# Altium schematic symbol library Battery_PSU.SchLib: 54 symbols
Pins are listed as number, name and electrical type; pins without a type are passive.

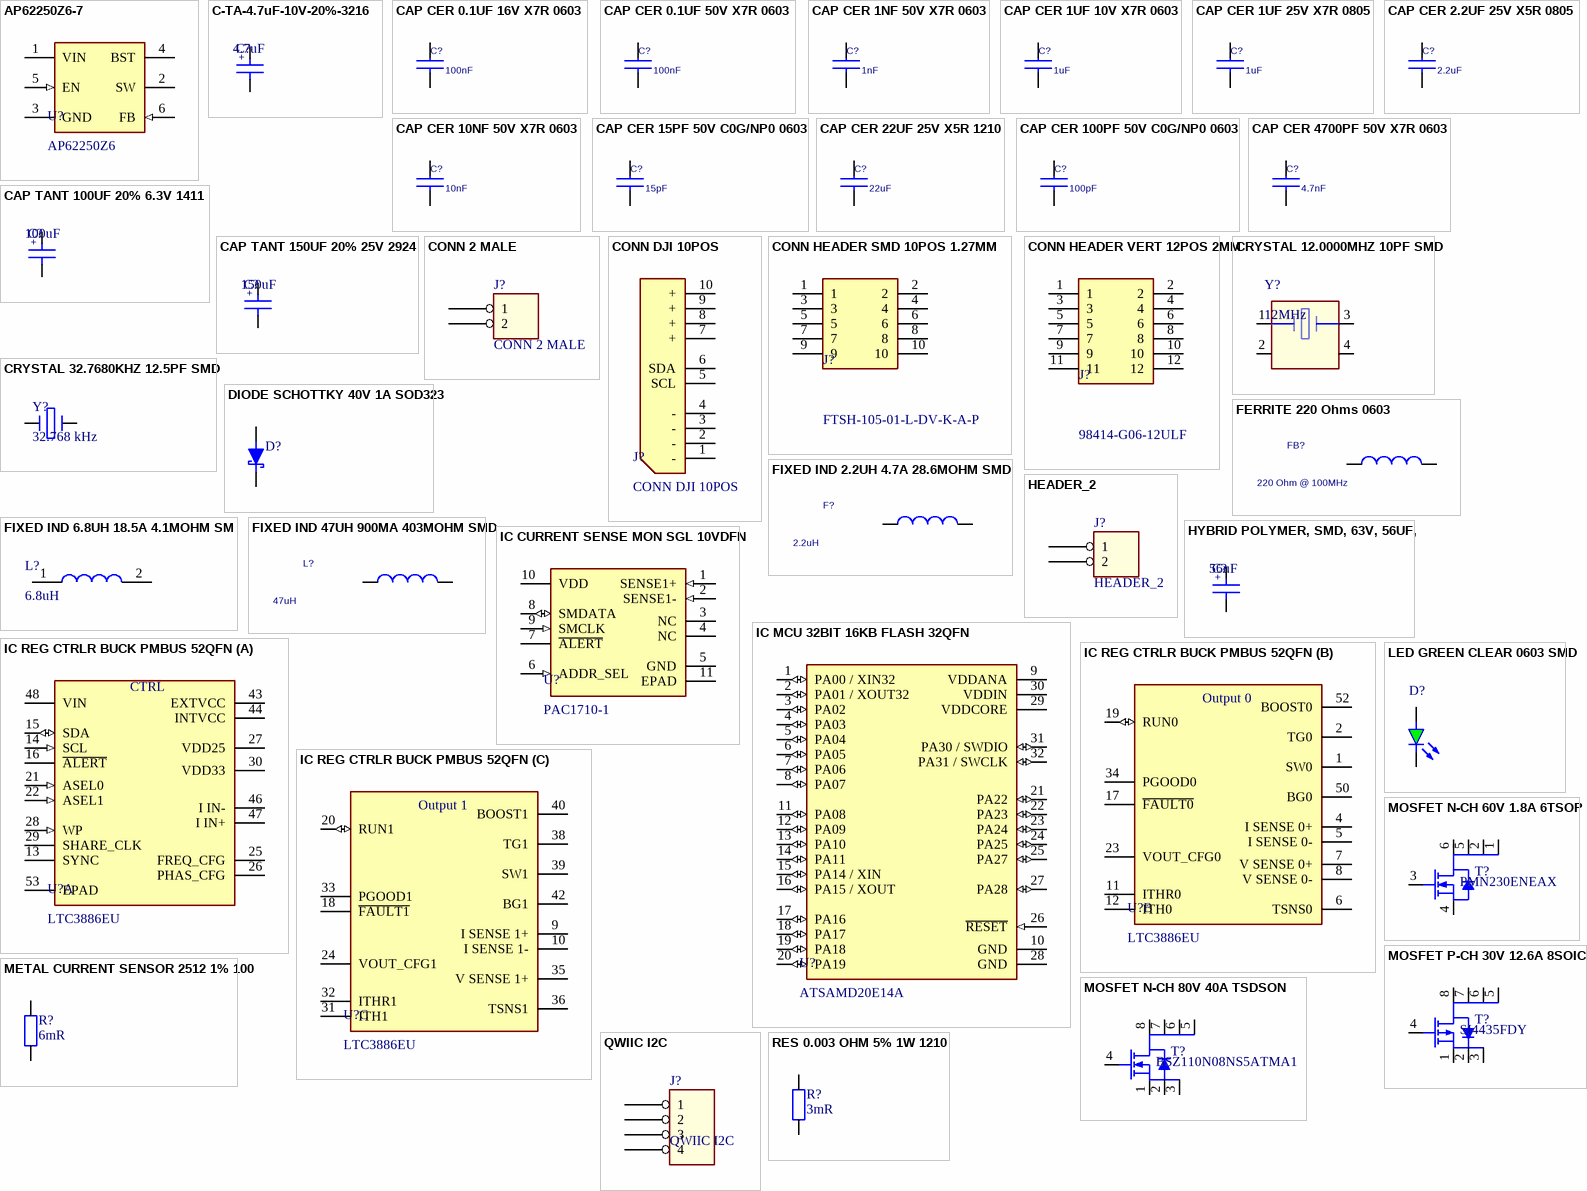
[diagram p0: symbols AP62250Z6-7 to RES 0.003 OHM 5% 1W 1210]

## AP62250Z6-7
designator U?, comment AP62250Z6
DCDC CONV BUCK 3A SOT563; Manufacturer: Diodes Incorporated; Manufacturer P/N: AP62250Z6-7; Value: AP62250Z6-7; Supplier 1: Digikey; Supplier 2: Mouser; Supplier Part Number 1: 31-AP62250Z6-7CT-ND; Supplier Part Number 2: 621-AP62250Z6-7; ComponentLink1Description: Supplier; ComponentLink1URL: https://www.digikey.ch/product-detail/fr/diodes-incorporated/AP62250Z6-7/31-AP62250Z6-7CT-ND/12349406; ComponentLink2Description: Datasheet; ComponentLink2URL: https://www.diodes.com/assets/Datasheets/AP62250.pdf
footprint SOT563-6 (IC Package SOT553-6 - Body 1.6x1.2x0.6mm)
pins: 1 VIN (power), 2 SW (power), 3 GND (power), 4 BST, 5 EN (in), 6 FB (in)

## C-TA-4.7uF-10V-20%-3216
designator C?, comment 4.7uF
Capacitor TA 4.7uF 10V 20% 3216; Manufacturer: Kemet; Manufacturer P/N: T491A475M010AT; Tolerance: 20%; Type: TA; Supplier 1: Digikey; Supplier 2: Mouser; Supplier Part Number 1: 399-3698-1-ND; Supplier Part Number 2: 80-T491A475M010; Value: 4.7uF; Rating: 10V
footprint T_CAPMP3216X180N
pins: 1, 2
text: +

## CAP CER 0.1UF 16V X7R 0603
designator C?, comment 100nF
CAP CER 0.1UF 16V X7R 0603; Manufacturer: Samsung; Manufacturer P/N: CL10B104KO8WPNC; Tolerance: 10%; Supplier 1: Digikey; Supplier Part Number 2: 187-CL10B104KO8WPNC; Supplier 2: Mouser; Supplier Part Number 1: 1276-6582-1-ND; Value: 100nF; Voltage: 16V; Dielectric: X7R; ComponentLink1Description: Supplier; ComponentLink1URL: https://www.digikey.ch/products/fr?keywords=1276-6582-1-ND; ComponentLink2Description: Datasheet; ComponentLink2URL: https://www.mouser.ch/datasheet/2/585/MLCC_Automotive-1837966.pdf
footprint SM/C_0603
pins: 1, 2

## CAP CER 0.1UF 50V X7R 0603
designator C?, comment 100nF
CAP CER 0.1UF 50V X7R 0603; Manufacturer: Samsung; Manufacturer P/N: CL10B104KB8NNNL; Tolerance: 10%; Supplier 1: Digikey; Supplier Part Number 2: 187-CL10B104KB8NNNL; Supplier 2: Mouser; Supplier Part Number 1: 1276-CL10B104KB8NNNLCT-ND; Value: 100nF; Voltage: 50V; Dielectric: X7R
footprint SM/C_0603
pins: 1, 2

## CAP CER 1NF 50V X7R 0603
designator C?, comment 1nF
CAP CER 1NF 50V X7R 0603; Manufacturer: Samsung; Manufacturer P/N: CL10B102KB8WPJC; Tolerance: 10%; Supplier 1: Digikey; Supplier Part Number 2: 187-CL10B102KB8WPJC; Supplier 2: Mouser; Supplier Part Number 1: 1276-CL10B102KB8WPJCCT-ND; Value: 1nF; Voltage: 50V; Dielectric: X7R; ComponentLink1Description: Supplier; ComponentLink1URL: https://www.digikey.ch/product-detail/fr/samsung-electro-mechanics/CL10B102KB8WPJC/1276-CL10B102KB8WPJCCT-ND/11487951; ComponentLink2Description: Datasheet; ComponentLink2URL: https://www.mouser.ch/datasheet/2/585/MLCC_Automotive-1837966.pdf
footprint SM/C_0603
pins: 1, 2

## CAP CER 1UF 10V X7R 0603
designator C?, comment 1uF
CAP CER 1UF 10V X7R 0603; Manufacturer: Samsung; Manufacturer P/N: CL10B105KP8NNNC; Tolerance: 10%; Supplier 1: Digikey; Supplier Part Number 2: 187-CL10B105KP8NNNC; Supplier 2: Mouser; Supplier Part Number 1: 1276-1946-1-ND; Value: 1uF; Voltage: 10V; Dielectric: X7R
footprint SM/C_0603
pins: 1, 2

## CAP CER 1UF 25V X7R 0805
designator C?, comment 1uF
CAP CER 1UF 25V X7R 0805; Manufacturer: Yageo; Manufacturer P/N: CC0805KKX7R8BB105; Tolerance: 10%; Supplier 1: Digikey; Supplier Part Number 2: 603-CC805KKX7R8BB105; Supplier 2: Mouser; Supplier Part Number 1: 311-1456-1-ND; Value: 1uF; Voltage: 25V; Dielectric: X7R
footprint SM/C_0805
pins: 1, 2

## CAP CER 2.2UF 25V X5R 0805
designator C?, comment 2.2uF
CAP CER 2.2UF 25V X5R 0805; Manufacturer: Samsung; Manufacturer P/N: CL21A225KAFNNNE; Tolerance: 10%; Supplier 1: Digikey; Supplier Part Number 2: 187-CL21A225KAFNNNE; Supplier 2: Mouser; Supplier Part Number 1: 1276-1763-1-ND; Value: 2.2uF; Voltage: 25V; Dielectric: X5R
footprint SM/C_0805
pins: 1, 2

## CAP CER 10NF 50V X7R 0603
designator C?, comment 10nF
CAP CER 10NF 50V X7R 0603; Manufacturer: Samsung; Manufacturer P/N: CL10B103KB8WPJC; Tolerance: 10%; Supplier 1: Digikey; Supplier Part Number 2: 187-CL10B103KB8WPJC; Supplier 2: Mouser; Supplier Part Number 1: 1276-CL10B103KB8WPJCCT-ND; Value: 10nF; Voltage: 50V; Dielectric: X7R
footprint SM/C_0603
pins: 1, 2

## CAP CER 15PF 50V C0G/NP0 0603
designator C?, comment 15pF
CAP CER 15PF 50V C0G/NP0 0603; Manufacturer: AVX; Manufacturer P/N: 06035A150JAT2A; Tolerance: 5%; Supplier 1: Digikey; Supplier Part Number 2: 581-06035A150J; Supplier 2: Mouser; Supplier Part Number 1: 478-1165-1-ND; Value: 15pF; Voltage: 50V; Dielectric: C0G/NP0; ComponentLink1Description: Supplier; ComponentLink1URL: https://www.digikey.ch/product-detail/fr/samsung-electro-mechanics/CL10A475KQ8NNWC/1276-1902-1-ND/3889988; ComponentLink2Description: Datasheet; ComponentLink2URL: https://www.mouser.ch/datasheet/2/585/MLCC-1837944.pdf
footprint SM/C_0603
pins: 1, 2

## CAP CER 22UF 25V X5R 1210
designator C?, comment 22uF
CAP CER 22UF 25V X5R 1210; Manufacturer: Samsung; Manufacturer P/N: CL32A226KAJNNWE; Tolerance: 10%; Supplier 1: Digikey; Supplier Part Number 2: 187-CL32A226KAJNNWE; Supplier 2: Mouser; Supplier Part Number 1: 1276-3369-1-ND; Voltage: 25V; Dielectric: X5R; ComponentLink1Description: Supplier; ComponentLink1URL: https://www.digikey.ch/product-detail/fr/samsung-electro-mechanics/CL32A226KAJNNWE/1276-3369-1-ND/3891455; ComponentLink2Description: Datasheet; ComponentLink2URL: https://www.mouser.ch/datasheet/2/585/MLCC-1837944.pdf; Value: 22uF
footprint SM/C_1210
pins: 1, 2

## CAP CER 100PF 50V C0G/NP0 0603
designator C?, comment 100pF
CAP CER 100PF 50V C0G/NP0 0603; Manufacturer: Samsung; Manufacturer P/N: CL10C101JB8NNNC; Tolerance: 5%; Supplier 1: Digikey; Supplier Part Number 2: 187-CL10C101JB8NNNC; Supplier 2: Mouser; Supplier Part Number 1: 1276-1008-1-ND; Value: 100pF; Voltage: 50V; Dielectric: C0G/NP0
footprint SM/C_0603
pins: 1, 2

## CAP CER 4700PF 50V X7R 0603
designator C?, comment 4.7nF
CAP CER 4700PF 50V X7R 0603; Manufacturer: Kemet; Manufacturer P/N: C0603C472K5RAC7411; Tolerance: 10%; Supplier 1: Digikey; Supplier Part Number 2: 80-C0603C472K5RLR; Supplier 2: Mouser; Supplier Part Number 1: 399-C0603C472K5RAC7411CT-ND; Value: 4.7nF; Voltage: 50V; Dielectric: X7R
footprint SM/C_0603
pins: 1, 2

## CAP TANT 100UF 20% 6.3V 1411
designator C?, comment 100uF
CAP TANT 100UF 20% 6.3V 1411; Manufacturer: AVX; Manufacturer P/N: F930J107MBA; Type: TA; Tolerance: 20%; Supplier 1: Digikey; Supplier 2: Mouser; Supplier Part Number 1: 478-8156-1-ND; Supplier Part Number 2: 647-F930J107MBA; Value: 100uF; Rating: 6.3V; ComponentLink1Description: Supplier; ComponentLink1URL: https://www.digikey.ch/product-detail/fr/avx-corporation/F930J107MBA/478-8156-1-ND/4005661; ComponentLink2Description: Datasheet; ComponentLink2URL: https://datasheets.avx.com/F93.pdf
footprint CAPMP3528X210N
pins: 1, 2
text: +

## CAP TANT 150UF 20% 25V 2924
designator C?, comment 150uF
CAP TANT 150UF 20% 25V 2924; Manufacturer: AVX; Manufacturer P/N: TAJV157M025RNJ; Type: TA; Tolerance: 20%; Supplier 1: Digikey; Supplier 2: Mouser; Supplier Part Number 1: 478-13134-1-ND; Supplier Part Number 2: 581-TAJV157M025RNJ; Value: 150uF; Rating: 25V
footprint SM/CT_7343_12_D
pins: 1, 2
text: +

## CONN 2 MALE
designator J?
footprint PHOENIX MKDS 5/2-6,35 - 1714955
pins: 1, 2

## CONN DJI 10POS
designator J?
footprint DJI Battery Connector
pins: 1 - (power), 2 - (power), 3 - (power), 4 - (power), 5 SCL, 6 SDA, 7 + (power), 8 + (power), 9 + (power), 10 + (power)

## CONN HEADER SMD 10POS 1.27MM
designator J?, comment FTSH-105-01-L-DV-K-A-P
CONN HEADER SMD 10POS 1.27MM; Manufacturer: Samtec; Manufacturer P/N: FTSH-105-01-L-DV-K-A-P; Supplier 1: Digikey; Supplier 2: Mouser; Supplier Part Number 1: SAM9440-ND; Supplier Part Number 2: 200-FTSH1051LDVKAPTR; Value: FTSH-105-01-L-DV-K-A-P
footprint FTSH-105-XX-YYY-DV-K-A-P-TR
pins: 1, 2, 3, 4, 5, 6, 7, 8, 9, 10

## CONN HEADER VERT 12POS 2MM
designator J?, comment 98414-G06-12ULF
CONN HEADER VERT 12POS 2MM; Manufacturer: Amphenol; Manufacturer P/N: 98414-G06-12ULF; Supplier 1: Digikey; Supplier 2: Mouser; Supplier Part Number 1: 609-3106-ND; Supplier Part Number 2: 649-98414-G06-12ULF; Value: 98414-G06-12ULF
footprint 98414G0612ULF
pins: 1, 2, 3, 4, 5, 6, 7, 8, 9, 10, 11, 12

## CRYSTAL 12.0000MHZ 10PF SMD
designator Y?, comment 12MHz
CRYSTAL 12.0000MHZ 10PF SMD; Manufacturer: Abracon LLC; Manufacturer P/N: ABM10AIG-12.000MHZ-4Z-T3; Supplier 1: Digikey; Supplier 2: Mouser; Supplier Part Number 1: 535-13360-1-ND; Supplier Part Number 2: 815-M10AIG-12-4ZT3; Value: 12MHz
footprint ABRACON_CRYSTAL_ABM10AIG SERIES (32.768kHz SMD LOW PROFILE CRYSTAL Abracon Series ABM10AIG 2.5 x 2 x 0.55mm)
pins: 1, 2 GND (power), 3, 4 GND (power)

## CRYSTAL 32.7680KHZ 12.5PF SMD
designator Y?, comment 32.768 kHz
CRYSTAL 32.7680KHZ 12.5PF SMD; Manufacturer: Abracon LLC; Manufacturer P/N: ABS06-32.768KHZ-T; Supplier 1: Digikey; Supplier 2: Mouser; Supplier Part Number 1: 535-10104-1-ND; Supplier Part Number 2: 815-ABS06-32.768K-T; Value: 32.768 kHz
footprint ABRACON_CRYSTAL_ABS06 SERIES (32.768kHz SMD LOW PROFILE CRYSTAL Abracon Series ABS06 2 x 1.2 x 0.6mm)
pins: 1, 2

## DIODE SCHOTTKY 40V 1A SOD323
designator D?, comment B140WS-7  (value not drawn)
DIODE SCHOTTKY 40V 1A SOD323; Manufacturer: Diodes Incorporated; Value: B140WS-7; Manufacturer P/N: B140WS-7; Supplier 1: Digikey; Supplier 2: Mouser; Supplier Part Number 1: B140WS-7DICT-ND; Supplier Part Number 2: 621-B140WS-7; ComponentLink1Description: Supplier; ComponentLink1URL: https://www.digikey.fr/product-detail/fr/diodes-incorporated/B140WS-7/B140WS-7DICT-ND/5218269; ComponentLink2Description: Datasheet; ComponentLink2URL: https://www.diodes.com/assets/Datasheets/ds31543.pdf
footprint SM/D_SOD323_A1C2 (SC-76) (SOD-323; 2 Leads; Body 1.8x 1.4 mm, (LxW))
pins: 1 A "Anode", 2 C "Cathode"

## FERRITE 220 Ohms 0603
designator FB?, comment 220 Ohm @ 100MHz
FERRITE BEAD 220 OHM 0603 1LN; Manufacturer: Murata; Manufacturer P/N: BLM18PG221SN1D; Supplier 1: Digikey; Supplier 2: Mouser; Supplier Part Number 1: 490-5221-1-ND; Supplier Part Number 2: 81-BLM18PG221SN1D; Value: 220 Ohm @ 100MHz
footprint SM/L_0603
pins: 1, 2

## FIXED IND 2.2UH 4.7A 28.6MOHM SMD
designator F?, comment 2.2uH
FIXED IND 2.2UH 4.7A 28.6MOHM SMD; Manufacturer: TDK; Manufacturer P/N: VLS5045EX-2R2N; Supplier 1: Digikey; Supplier 2: Mouser; Supplier Part Number 1: 445-174850-1-ND; Supplier Part Number 2: 810-VLS5045EX-2R2N; ComponentLink1Description: Supplier; ComponentLink1URL: https://www.digikey.ch/product-detail/fr/tdk-corporation/VLS5045EX-2R2N/445-174850-1-ND/6560407; ComponentLink2Description: Datasheet; ComponentLink2URL: https://product.tdk.com/en/system/files?file=dam/doc/product/inductor/inductor/smd/catalog/inductor_commercial_power_vls5045ex_en.pdf; Value: 2.2uH
footprint TDK_SELF-SERIE VLS5045
pins: 1, 2

## FIXED IND 6.8UH 18.5A 4.1MOHM SM
designator L?, comment 6.8uH
FIXED IND 6.8UH 18.5A 4.1MOHM SM; Manufacturer: Wurth Elektronik; Manufacturer P/N: 7443556680; Supplier 1: Digikey; Supplier Part Number 1: 732-2174-1-ND; Supplier 2: Mouser; Supplier Part Number 2: 710-7443556680; Value: 6.8uH
footprint WE-HCI_189023
pins: 1, 2

## FIXED IND 47UH 900MA 403MOHM SMD
designator L?, comment 47uH
FIXED IND 47UH 900MA 403MOHM SMD; Manufacturer: Taiyo Yuden; Manufacturer P/N: NRS5040T470MMGJ; Supplier 1: Digikey; Supplier 2: Mouser; Supplier Part Number 1: 587-NRS5040T470MMGJCT-ND; Supplier Part Number 2: 963-NRS5040T470MMGJ; Value: 47uH
footprint TAIYO YUDEN_SELF-SERIE_NR(S)5040 (INDUCTOR TAIYO YUDEN SERIES NR(S)5040 SMD)
pins: 1, 2

## HEADER_2
designator J?
footprint PHOENIX MKDS 5/2-6,35 - 1714955
pins: 1, 2

## HYBRID POLYMER, SMD, 63V, 56UF,
designator C?, comment 56uF
HYBRID POLYMER, SMD, 63V, 56UF,; Manufacturer: Kemet; Manufacturer P/N: A780MS566M1JLAS030; Tolerance: 20%; Type: Hybride; Supplier 1: Digikey; Supplier 2: Mouser; Supplier Part Number 1: 399-A780MS566M1JLAS030CT-ND; Supplier Part Number 2: 80-A780MS566M1JLAS30; Value: 56uF; Rating: 63V; ComponentLink1Description: Supplier; ComponentLink1URL: https://www.digikey.ch/product-detail/fr/kemet/A780MS566M1JLAS030/399-A780MS566M1JLAS030CT-ND/13404741; ComponentLink2Description: Datasheet; ComponentLink2URL: https://content.kemet.com/datasheets/KEM_A4098_A780.pdf
footprint SM/C SIZE F12 (Aluminium Electrolytic capacitor - serie F12 Sanyo)
pins: 1, 2
text: +

## IC CURRENT SENSE MON SGL 10VDFN
designator U?, comment PAC1710-1
IC CURRENT SENSE MON SGL 10VDFN; Manufacturer: Microchip; Manufacturer P/N: PAC1710-1-AIA-TR; Value: PAC1710-1; Supplier 1: Digikey; Supplier 2: Mouser; Supplier Part Number 1: PAC1710-1-AIA-CT-ND; Supplier Part Number 2: 579-PAC1710-1-AIA-TR
footprint WFDFN-10
pins: 1 SENSE1+ (in), 2 SENSE1- (in), 3 NC, 4 NC, 5 GND (power), 6 ADDR_SEL (in), 7 ~{ALERT} (oc), 8 SMDATA (io), 9 SMCLK (in), 10 VDD (power), 11 EPAD

## IC MCU 32BIT 16KB FLASH 32QFN
designator U?, comment ATSAMD20E14A
IC MCU 32BIT 16KB FLASH 32QFN; Manufacturer: Microchip; Manufacturer P/N: ATSAMD20E14A-MUT; Value: ATSAMD20E14A; Supplier 1: Digikey; Supplier 2: Mouser; Supplier Part Number 1: ATSAMD20E14A-MUTCT-ND; Supplier Part Number 2: 556-ATSAMD20E14A-MUT
footprint VFQFN-32_(32-Lead LFCSP_VQ) (IC Package VQFQFN-32 (32-Lead LFCSP_VQ))
pins: 1 PA00 / XIN32 (io), 2 PA01 / XOUT32 (io), 3 PA02 (io), 4 PA03 (io), 5 PA04 (io), 6 PA05 (io), 7 PA06 (io), 8 PA07 (io), 9 VDDANA (power), 10 GND (power), 11 PA08 (io), 12 PA09 (io), 13 PA10 (io), 14 PA11 (io), 15 PA14 / XIN (io), 16 PA15 / XOUT (io), 17 PA16 (io), 18 PA17 (io), 19 PA18 (io), 20 PA19 (io), 21 PA22 (io), 22 PA23 (io), 23 PA24 (io), 24 PA25 (io), 25 PA27 (io), 26 ~{RESET} (in), 27 PA28 (io), 28 GND (power), 29 VDDCORE (power), 30 VDDIN (power), 31 PA30 / SWDIO (io), 32 PA31 / SWCLK (io)

## IC REG CTRLR BUCK PMBUS 52QFN
designator U?, comment LTC3886EU
IC REG CTRLR BUCK PMBUS 52QFN; Manufacturer: Analog Devices; Manufacturer P/N: LTC3886EUKG#PBF; Value: LTC3886EU; Supplier 1: Digikey; Supplier 2: Mouser; Supplier Part Number 1: LTC3886EUKG#PBF-ND; Supplier Part Number 2: 584-LTC3886EUKG#PBF
footprint UKG_52_ADI
part A pins: 13 SYNC, 14 SCL (in), 15 SDA (io), 16 ~{ALERT} (oc), 21 ASEL0 (in), 22 ASEL1 (in), 25 FREQ_CFG, 26 PHAS_CFG, 27 VDD25 (power), 28 WP (in), 29 SHARE_CLK (oc), 30 VDD33 (power), 43 EXTVCC (power), 44 INTVCC (power), 46 I IN-, 47 I IN+, 48 VIN (power), 53 EPAD (power)
part B pins: 1 SW0 (power), 2 TG0 (power), 4 I SENSE 0+, 5 I SENSE 0-, 6 TSNS0, 7 V SENSE 0+, 8 V SENSE 0-, 11 ITHR0, 12 ITH0, 17 ~{FAULT0} (oc), 19 RUN0 (io), 23 VOUT_CFG0, 34 PGOOD0 (oc), 50 BG0 (power), 52 BOOST0 (power)
part C pins: 9 I SENSE 1+, 10 I SENSE 1-, 18 ~{FAULT1} (oc), 20 RUN1 (io), 24 VOUT_CFG1, 31 ITH1, 32 ITHR1, 33 PGOOD1 (oc), 35 V SENSE 1+, 36 TSNS1, 38 TG1 (power), 39 SW1 (power), 40 BOOST1 (power), 42 BG1 (power)
part A text: CTRL
part B text: Output 0
part C text: Output 1

## LED GREEN CLEAR 0603 SMD
designator D?, comment Green  (value not drawn)
LED GREEN CLEAR 0603 SMD; Manufacturer: Würth Elektronik; Manufacturer P/N: 150060GS75000; Supplier 1: Digikey; Supplier 2: Mouser; Supplier Part Number 1: 732-4971-1-ND; Supplier Part Number 2: 710-150060GS75000; Value: Green
footprint WL-SMCW_0603 - Green (SMD Mono-color Chip LED, body 1.6x0.8mm)
pins: 1 C, 2 A

## METAL CURRENT SENSOR 2512 1% 100
designator R?, comment 6mR
METAL CURRENT SENSOR 2512 1% 100; Manufacturer: Yageo; Manufacturer P/N: PA2512FKF7W0R006E; Power: 2W; Voltage: 75V; Value: 6mR; Tolerance: 1%; Supplier 1: Digikey; Supplier Part Number 1: YAG6098CT-ND; Supplier 2: Mouser; Supplier Part Number 2: 603-PA2512FKF7WR006E
footprint SM/R_2512 (Chip Resistor 2512(6332), Body 6.3x3.2mm, IPC Medium Density)
pins: 1, 2

## MOSFET N-CH 60V 1.8A 6TSOP
designator T?, comment PMN230ENEAX
MOSFET N-CH 60V 1.8A 6TSOP; Manufacturer Name: Nexperia; Supplier 1: Digikey; Supplier 2: Mouser; Supplier Part Number 1: 1727-8649-1-ND; Supplier Part Number 2: 771-PMN230ENEAX; Value: PMN230ENEAX
footprint TSOP-6 (IC Package SC70-6 (SOT363) - Body 2x1.25x1.1mm)
pins: 1 D, 2 D, 3 G, 4 S, 5 D, 6 D

## MOSFET N-CH 80V 40A TSDSON
designator T?, comment BSZ110N08NS5ATMA1
MOSFET N-CH 80V 40A TSDSON; Manufacturer Name: Infineon; Supplier 1: Digikey; Supplier 2: Mouser; Supplier Part Number 1: BSZ110N08NS5ATMA1CT-ND; Supplier Part Number 2: 726-BSZ110N08NS5ATMA; Value: BSZ110N08NS5ATMA1; Manufacturer P/N: BSZ110N08NS5ATMA1
footprint BSZ110N08NS5ATMA1
pins: 1 S, 2 S, 3 S, 4 G, 5 D, 6 D, 7 D, 8 D

## MOSFET P-CH 30V 12.6A 8SOIC
designator T?, comment SI4435FDY
MOSFET P-CH 30V 12.6A 8SOIC; Manufacturer Name: Nexperia; Supplier 1: Digikey; Supplier 2: Mouser; Supplier Part Number 1: SI4435FDY-T1-GE3CT-ND; Supplier Part Number 2: 78-SI4435FDY-T1-GE3; Value: SI4435FDY
footprint SOIC-8 - N (SOIC-8 / Body 5x4x1.75mm / Pitch 1.27mm  / 8 Pins)
pins: 1 S, 2 S, 3 S, 4 G, 5 D, 6 D, 7 D, 8 D

## QWIIC I2C
designator J?
Manufacturer: SparkFun Electronics; Manufacturer P/N: PRT-14417; Supplier 1: Digikey; Supplier 2: Mouser; Supplier Part Number 1: PRT-14417-ND; Supplier Part Number 2: 474-PRT-14417
footprint JST_SM04B-SRSS-TB(LF)(SN)
pins: 1, 2, 3, 4

## RES 0.003 OHM 5% 1W 1210
designator R?, comment 3mR
RES 0.003 OHM 5% 1W 1210; Manufacturer: Rohm; Manufacturer P/N: PMR25HZPJV3L0; Voltage: 75V; Value: 3mR; Power: 1W; Tolerance: 5%; Supplier 1: Digikey; Supplier Part Number 1: RHM.003AQCT-ND; Supplier 2: Mouser; Supplier Part Number 2: 755-PMR25HZPJV3L0
footprint SM/R_1210
pins: 1, 2

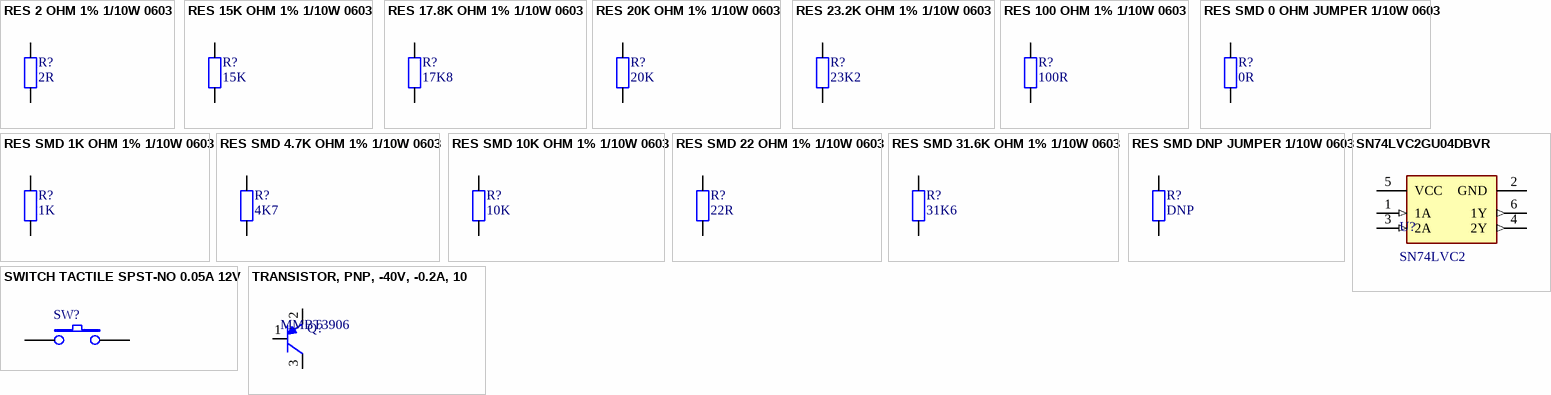
[diagram p1: symbols RES 2 OHM 1% 1/10W 0603 to TRANSISTOR, PNP, -40V, -0.2A, 10]

## RES 2 OHM 1% 1/10W 0603
designator R?, comment 2R
RES 2 OHM 1% 1/10W 0603; Manufacturer: Yageo; Manufacturer P/N: RC0603FR-072RL; Power: 100mW; Voltage: 75V; Value: 2R; Tolerance: 1%; Supplier 1: Digikey; Supplier Part Number 1: 311-2.00HRCT-ND; Supplier 2: Mouser; Supplier Part Number 2: 603-RC0603FR-072RL
footprint SM/R_0603
pins: 1, 2

## RES 15K OHM 1% 1/10W 0603
designator R?, comment 15K
RES 15K OHM 1% 1/10W 0603; Manufacturer: Yageo; Manufacturer P/N: RC0603FR-1315KL; Power: 100mW; Voltage: 75V; Value: 15K; Tolerance: 1%; Supplier 1: Digikey; Supplier Part Number 1: 13-RC0603FR-1315KLCT-ND; Supplier 2: Mouser; Supplier Part Number 2: 603-RC0603FR-1315KL
footprint SM/R_0603
pins: 1, 2

## RES 17.8K OHM 1% 1/10W 0603
designator R?, comment 17K8
RES 17.8K OHM 1% 1/10W 0603; Manufacturer: Yageo; Manufacturer P/N: RC0603FR-0717K8L; Power: 100mW; Voltage: 75V; Value: 17K8; Tolerance: 1%; Supplier 1: Digikey; Supplier Part Number 1: 311-17.8KHRCT-ND; Supplier 2: Mouser; Supplier Part Number 2: 603-RC0603FR-0717K8L
footprint SM/R_0603
pins: 1, 2

## RES 20K OHM 1% 1/10W 0603
designator R?, comment 20K
RES 20K OHM 1% 1/10W 0603; Manufacturer: Yageo; Manufacturer P/N: RC0603FR-0720KL; Power: 100mW; Voltage: 75V; Value: 20K; Tolerance: 1%; Supplier 1: Digikey; Supplier Part Number 1: 311-20.0KHRCT-ND; Supplier 2: Mouser; Supplier Part Number 2: 603-RC0603FR-0720KL
footprint SM/R_0603
pins: 1, 2

## RES 23.2K OHM 1% 1/10W 0603
designator R?, comment 23K2
RES 23.2K OHM 1% 1/10W 0603; Manufacturer: Yageo; Manufacturer P/N: RC0603FR-0723K2L; Power: 100mW; Voltage: 75V; Value: 23K2; Tolerance: 1%; Supplier 1: Digikey; Supplier Part Number 1: 311-23.2KHRCT-ND; Supplier 2: Mouser; Supplier Part Number 2: 03-RC0603FR-0723K2L
footprint SM/R_0603
pins: 1, 2

## RES 100 OHM 1% 1/10W 0603
designator R?, comment 100R
RES 100 OHM 1% 1/10W 0603; Manufacturer: Yageo; Manufacturer P/N: RC0603FR-07100RL; Power: 100mW; Voltage: 75V; Value: 100R; Tolerance: 1%; Supplier 1: Digikey; Supplier Part Number 1: 311-100HRCT-ND; Supplier 2: Mouser; Supplier Part Number 2: 603-RC0603FR-07100RL
footprint SM/R_0603
pins: 1, 2

## RES SMD 0 OHM JUMPER 1/10W 0603
designator R?, comment 0R
RES SMD 0 OHM JUMPER 1/10W 0603; Manufacturer: Yageo; Manufacturer P/N: RC0603FR-070RL; Power: 100mW; Voltage: 75V; Tolerance: 1%; Value: 0R; Supplier 1: Digikey; Supplier Part Number 1: 311-0.0HRCT-ND; ComponentLink1Description: Datasheet; ComponentLink1URL: https://www.yageo.com/upload/media/product/productsearch/datasheet/rchip/PYu-RC_Group_51_RoHS_L_11.pdf; ComponentLink2Description: Supplier; ComponentLink2URL: https://www.digikey.ch/product-detail/fr/yageo/RC0603FR-070RL/311-0-0HRCT-ND/4340584; Supplier 2: Mouser; Supplier Part Number 2: 603-RC0603FR-070RL
footprint SM/R_0603
pins: 1, 2

## RES SMD 1K OHM 1% 1/10W 0603
designator R?, comment 1K
RES SMD 1K OHM 1% 1/10W 0603; Manufacturer: Yageo; Manufacturer P/N: RC0603FR-071KL; Power: 100mW; Voltage: 75V; Value: 1K; Tolerance: 1%; Supplier 1: Digikey; Supplier Part Number 1: 311-1.00KHRCT-ND; ComponentLink1Description: Datasheet; ComponentLink1URL: https://www.yageo.com/upload/media/product/productsearch/datasheet/rchip/PYu-RC_Group_51_RoHS_L_11.pdf; ComponentLink2Description: Supplier; ComponentLink2URL: https://www.digikey.ch/product-detail/fr/yageo/RC0603FR-071KL/311-1-00KHRCT-ND/729790; Supplier 2: Mouser; Supplier Part Number 2: 603-RC0603FR-071KL
footprint SM/R_0603
pins: 1, 2

## RES SMD 4.7K OHM 1% 1/10W 0603
designator R?, comment 4K7
RES SMD 4.7K OHM 1% 1/10W 0603; Manufacturer: Yageo; Manufacturer P/N: RC0603FR-074K7L; Power: 100mW; Voltage: 75V; Value: 4K7; Tolerance: 1%; Supplier 1: Digikey; Supplier Part Number 1: 311-4.70KHRCT-ND; ComponentLink1Description: Datasheet; ComponentLink1URL: https://www.yageo.com/upload/media/product/productsearch/datasheet/rchip/PYu-RC_Group_51_RoHS_L_11.pdf; ComponentLink2Description: Supplier; ComponentLink2URL: https://www.digikey.ch/product-detail/fr/yageo/RC0603FR-074K7L/311-4-70KHRCT-ND/730159; Supplier 2: Mouser; Supplier Part Number 2: 603-RC0603FR-074K7L
footprint SM/R_0603
pins: 1, 2

## RES SMD 10K OHM 1% 1/10W 0603
designator R?, comment 10K
Résistance 0603 100mW 1% 10K; Manufacturer: Yageo; Manufacturer P/N: RC0603FR-0710KL; Voltage: 75V; Value: 10K; Power: 100mW; Tolerance: 1%; Supplier 1: Digikey; Supplier Part Number 1: 311-10.0KHRCT-ND; ComponentLink1Description: Datasheet; ComponentLink1URL: https://www.yageo.com/upload/media/product/productsearch/datasheet/rchip/PYu-RC_Group_51_RoHS_L_11.pdf; ComponentLink2Description: Supplier; ComponentLink2URL: https://www.digikey.ch/product-detail/fr/yageo/RC0603FR-0710KL/311-10-0KHRCT-ND/729827; Supplier 2: Mouser; Supplier Part Number 2: 603-RC0603FR-0710KL
footprint SM/R_0603
pins: 1, 2

## RES SMD 22 OHM 1% 1/10W 0603
designator R?, comment 22R
RES SMD 22 OHM 1% 1/10W 0603; Manufacturer: Yageo; Manufacturer P/N: RC0603FR-0722RL; Power: 100mW; Voltage: 75V; Value: 22R; Tolerance: 1%; Supplier 1: Digikey; Supplier Part Number 1: 311-22.0HRCT-ND; ComponentLink1Description: Datasheet; ComponentLink1URL: https://www.yageo.com/upload/media/product/productsearch/datasheet/rchip/PYu-RC_Group_51_RoHS_L_11.pdf; ComponentLink2Description: Supplier; ComponentLink2URL: https://www.digikey.ch/product-detail/fr/yageo/RC0603FR-0710KL/311-10-0KHRCT-ND/729827; Supplier 2: Mouser; Supplier Part Number 2: 603-RC0603FR-0722RL
footprint SM/R_0603
pins: 1, 2

## RES SMD 31.6K OHM 1% 1/10W 0603
designator R?, comment 31K6
RES SMD 31.6K OHM 1% 1/10W 0603; Manufacturer: Yageo; Manufacturer P/N: RC0603FR-0731K6L; Power: 100mW; Voltage: 75V; Value: 31K6; Tolerance: 1%; Supplier 1: Digikey; Supplier Part Number 1: 311-31.6KHRCT-ND; ComponentLink1Description: Datasheet; ComponentLink1URL: https://www.mouser.ch/datasheet/2/447/Yageo_03_18_2021_PYu_RC_Group_51_RoHS_L_11-2199992.pdf; ComponentLink2Description: Supplier; ComponentLink2URL: https://www.digikey.ch/product-detail/fr/yageo/RC0603FR-0731K6L/311-31-6KHRCT-ND/730098; Supplier 2: Mouser; Supplier Part Number 2: 603-RC0603FR-0731K6L
footprint SM/R_0603
pins: 1, 2

## RES SMD DNP JUMPER 1/10W 0603
designator R?, comment DNP  (no BOM)
RES SMD DNP JUMPER 1/10W 0603; Value: DNP; ComponentLink1Description: Datasheet; ComponentLink2Description: Supplier
footprint SM/R_0603
pins: 1, 2

## SN74LVC2GU04DBVR
designator U?, comment SN74LVC2
IC INVERTER 2CH 2-INP SOT23-6; Manufacturer: Texas Instruments; Manufacturer P/N: SN74LVC2GU04DBVR; Value: SN74LVC2; Supplier 1: Digikey; Supplier 2: Mouser; Supplier Part Number 1: 296-13276-1-ND; Supplier Part Number 2: 595-SN74LVC2GU04DBVR
footprint SOT23-6 (IC Package SOT23-6- Body 2.9x1.6x1.45mm)
pins: 1 1A (in), 2 GND (power), 3 2A (in), 4 2Y (out), 5 VCC (power), 6 1Y (out)

## SWITCH TACTILE SPST-NO 0.05A 12V
designator SW?, comment SW_PUSHBUTTON  (value not drawn)
Tactile Switch SPST-NO Top Actuated SMD; Manufacturer: Omron Electronics; Manufacturer P/N: B3U-1000P; ID: 1814; Value: B3U-1000P; Voltage: 12V; Component: SWITCH; Component Type Category Connector Type: SWITCH SPST-NO; Supplier 1: Digi-Key; Supplier Part Number 1: SW1020CT-ND; Supplier 2: Mouser; Supplier Part Number 2: 653-B3U-1000P; RoHS Compliant: True; ComponentLink1Description: Datasheet; ComponentLink1URL: http://www.omron.com/ecb/products/pdf/en-b3u.pdf; ComponentLink2Description: Supplier; ComponentLink2URL: http://www.mouser.ch/ProductDetail/Omron-Electronics/B3U-1000P/?qs=sGAEpiMZZMsgGjVA3toVBD%252bqDoRYvPtZBt73XVLWoZs%3d
footprint Omron_SWITCH_B3U-1000P
pins: 1, 2

## TRANSISTOR, PNP, -40V, -0.2A, 10
designator Q?, comment MMBT3906
TRANSISTOR, PNP, -40V, -0.2A, 10; Manufacturer: Taiwan Semiconductor; Manufacturer P/N: MMBT3906 RFG; Supplier 1: Digikey; Supplier Part Number 1: MMBT3906RFGCT-ND; Supplier 2: Mouser; Supplier Part Number 2: 821-MMBT3906RFG; Value: MMBT3906
footprint SOT23 (IC Package SOT23- Body 2.9x1.3x0.95mm)
pins: 1 B "Base", 2 E "Emitter", 3 C "Collector"